# Altium schematic symbol library 533750210.SchLib: 1 symbol
Pins are listed as number, name and electrical type; pins without a type are passive.

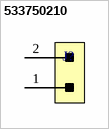
[diagram p0: symbol 533750210]

## 533750210
designator J?
2 Curcuits Mini-Lock PCB Header
footprint 533750210 (2 Curcuits Mini-Lock PCB Header)
pins: 1, 2